# Altium footprint library libNico.PcbLib: 28 footprints (part 1 of 2)
Each footprint in its own frame and in the unit in brackets; x right, y up, seen from the top. Pads: shape width x height; smd on the part's side, far side on the other; paste and mask are expansions set on the pad; w line width, h text height; cw(c..) or ccw(c..) is an arc to the next point about the centre after c.
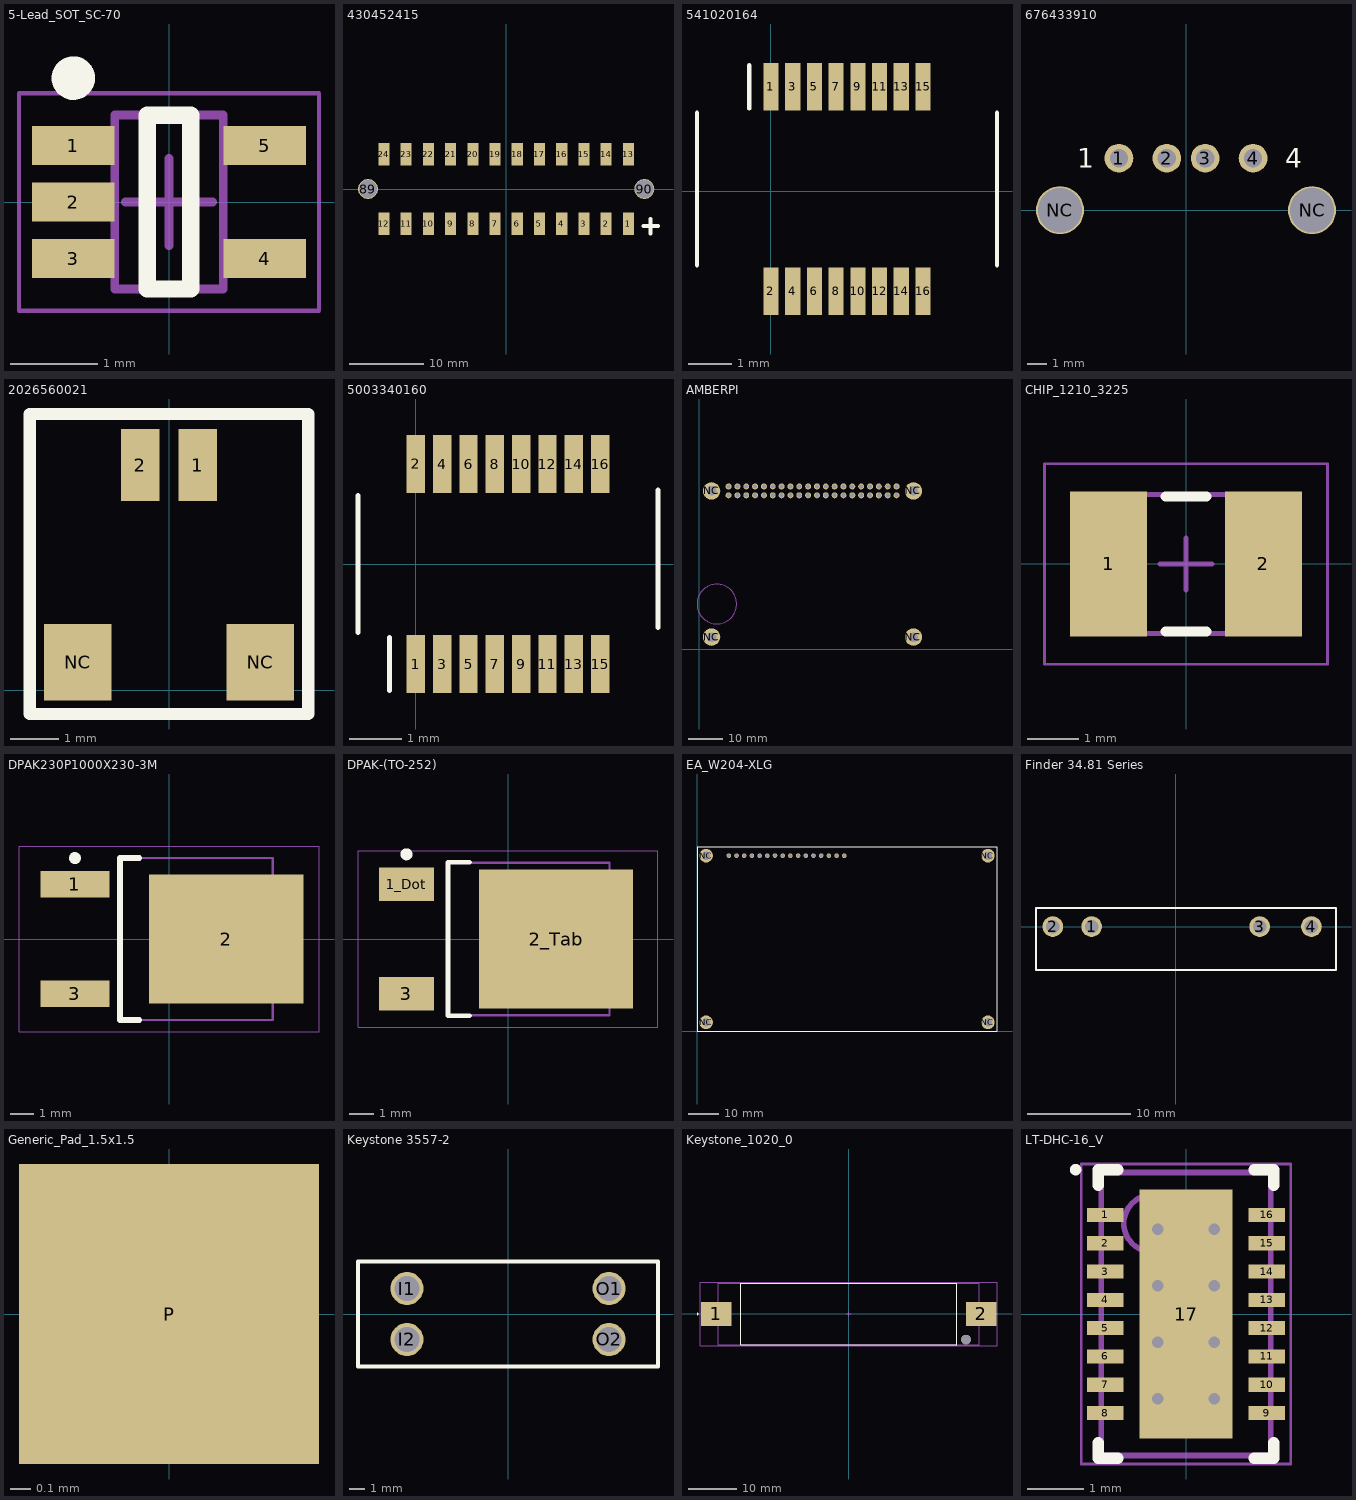
[diagram p0: the footprints below, top view; thin cyan lines are the x and y axes]

## 5-Lead_SOT_SC-70 [mm] "SOT23, 5-Leads, Body 2,00x2,10mm, Pitch 0,65mm, IPC Medium Density"
height 1.1
pads (5):
  rect 0.95x0.45 smd: 1(-1.1,0.65) 2(-1.1,0) 3(-1.1,-0.65) 4(1.1,-0.65) 5(1.1,0.65)
Top Overlay:
  circle w0.25: c-1.1,1.425 r0.125
  lines w0.2: -0.25,-1 0.25,-1 0.25,1 -0.25,1 -0.25,-1
Mechanical 13:
  lines w0.1: -0.625,-1 -0.625,1 0.625,1 0.625,-1 -0.625,-1
Mechanical 15:
  lines w0.05: -1.725,-1.25 -1.725,1.25 1.725,1.25 1.725,-1.25 -1.725,-1.25
  lines w0.1: -0.5,0 0.5,0 ; 0,-0.5 0,0.5
3D body "5-Lead_SOT_SC-70.step": height 1.1, standoff 0, extent -1.15,-1 1.15,1

## 430452415 [mm] "Micro-Fit 3.0 Vertical Header, 3.00mm Pitch, Dual Row, 24 Circuits, with PCB Press-fit Metal Retention Clip, Tin, Glow-Wire Capable, Black, Tape and Reel"
pads (26):
  rect 1.5x3 smd: 1(16.5,-4.7) 2(13.5,-4.7) 3(10.5,-4.7) 4(7.5,-4.7) 5(4.5,-4.7) 6(1.5,-4.7) 7(-1.5,-4.7) 8(-4.5,-4.7) 9(-7.5,-4.7) 10(-10.5,-4.7) 11(-13.5,-4.7) 12(-16.5,-4.7) 13(16.5,4.7) 14(13.5,4.7) 15(10.5,4.7) 16(7.5,4.7) 17(4.5,4.7) 18(1.5,4.7) 19(-1.5,4.7) 20(-4.5,4.7) 21(-7.5,4.7) 22(-10.5,4.7) 23(-13.5,4.7) 24(-16.5,4.7)
  round 2.7 hole 2.45: 89(-18.65,0) 90(18.65,0)
Top Overlay:
  lines w0.5: 18.5,-5 20.5,-5 ; 19.5,-6 19.5,-4
3D body "430452415.stp": height 10.05, standoff -1.91, extent -20.075,-5.61 20.075,5.59

## 541020164 [mm] "0.50mm Pitch SlimStack Receptacle, Surface Mount, Dual Row, Vertical, 2.50mm Stacking Height, Gold Plating with Nickel Barrier, 16 Circuits"
pads (16):
  rect 0.35x1.1 smd mask+0.05: 1(0,2.4) 2(0,-2.3) 3(0.5,2.4) 4(0.5,-2.3) 5(1,2.4) 6(1,-2.3) 7(1.5,2.4) 8(1.5,-2.3) 9(2,2.4) 10(2,-2.3) 11(2.5,2.4) 12(2.5,-2.3) 13(3,2.4) 14(3,-2.3) 15(3.5,2.4) 16(3.5,-2.3)
Top Overlay:
  lines w0.1: -1.7,-1.7 -1.7,1.8 ; -0.5,1.9 -0.5,2.9 ; 5.2,-1.7 5.2,1.8
3D body "541020164.stp": height 2.1, standoff 0, extent -1.55,-2.6 5.05,2.7

## 676433910 [mm] "Universal Serial Bus (USB) Shielded I/O Receptacle, Right-Angle, Type A, High-Temperature White Nylon, Gold (Au) Flash, PCB Thickness 1.60mm, without Upper Flange, for IR Reflow Process, Lead-Free"
pads (6):
  round 1.5 hole 0.95: 1(-3.5,2.71) 2(-1,2.71) 3(1,2.71) 4(3.5,2.71)
  round 2.5 hole 2.3: NC(-6.57,0) NC(6.57,0)
Top Overlay:
  text "1" at -5.667,2.2 h1
  text "4" at 5.167,2.2 h1
3D body "676433910.stp": height 8.23, standoff -3.2, extent -7.997,-10.26 7.997,5

## 2026560021 [mm] "Molex Pico-EZmate and Pico-EZmate Slim Wire-to-Board PCB Header"
pads (4):
  rect 0.8x1.5 smd: 1(0.6,4.685) 2(-0.6,4.685)
  rect 1.4x1.6 smd: NC(-1.9,0.58) NC(1.9,0.58)
Top Overlay:
  lines w0.254: -2.9,-0.5 -2.9,5.75 2.9,5.75 2.9,-0.5 -2.9,-0.5
3D body "2026560021.stp": height 1.28, standoff 0.08, extent -2.25,0 2.25,4.79

## 5003340160 [mm] "0.50mm Pitch SlimStack Plug, Surface Mount, Dual Row, Vertical, 2.50mm Stack Height, 16 Circuits"
pads (16):
  rect 0.35x1.1 smd mask+0.05: 1(0,-1.9) 2(0,1.9) 3(0.5,-1.9) 4(0.5,1.9) 5(1,-1.9) 6(1,1.9) 7(1.5,-1.9) 8(1.5,1.9) 9(2,-1.9) 10(2,1.9) 11(2.5,-1.9) 12(2.5,1.9) 13(3,-1.9) 14(3,1.9) 15(3.5,-1.9) 16(3.5,1.9)
Top Overlay:
  lines w0.1: -1.1,-1.3 -1.1,1.3 ; -0.5,-2.4 -0.5,-1.4 ; 4.6,-1.2 4.6,1.4
3D body "5003340160.stp": height 1.58, standoff 0, extent -0.975,-2.1 4.475,2.1

## AMBERPI [mm] "WE Elektronik AmberPi Kit flipped"
pads (44):
  round 1.7 hole 1.2: 1(8.37,44.23) 2(8.37,46.77) 3(10.91,44.23) 4(10.91,46.77) 5(13.45,44.23) 6(13.45,46.77) 7(15.99,44.23) 8(15.99,46.77) 9(18.53,44.23) 10(18.53,46.77) 11(21.07,44.23) 12(21.07,46.77) 13(23.61,44.23) 14(23.61,46.77) 15(26.15,44.23) 16(26.15,46.77) 17(28.69,44.23) 18(28.69,46.77) 19(31.23,44.23) 20(31.23,46.77) 21(33.77,44.23) 22(33.77,46.77) 23(36.31,44.23) 24(36.31,46.77) 25(38.85,44.23) 26(38.85,46.77) 27(41.39,44.23) 28(41.39,46.77) 29(43.93,44.23) 30(43.93,46.77) 31(46.47,44.23) 32(46.47,46.77) 33(49.01,44.23) 34(49.01,46.77) 35(51.55,44.23) 36(51.55,46.77) 37(54.09,44.23) 38(54.09,46.77) 39(56.63,44.23) 40(56.63,46.77)
  round 5 hole 2.7: NC(3.5,3.5) NC(3.5,45.5) NC(61.5,3.5) NC(61.5,45.5)
Bottom Overlay:
  lines w0.25: 0,0 0,49 85.5,49 85.5,0 0,0 ; 7.1,42.96 57.9,42.96 57.9,48.04 7.1,48.04 7.1,42.96
  text "1" at 6.73,42.55 h0.9
  text "2" at 6.78,47.8 h0.9
  text "39" at 59.82,42.3 h0.9
  text "40" at 59.82,47.8 h0.9
Board Outline:
  circle w0.254: c5,13 r5.7

## CHIP_1210_3225 [mm] "Chip Inductor, 2-Leads, Body 3,20x2,50mm, IPC Low Density"
height 2.7
pads (2):
  rect 1.49x2.82 smd: 1(-1.505,0) 2(1.505,0)
Top Overlay:
  lines w0.2: -0.4,-1.31 0.4,-1.31 ; -0.4,1.31 0.4,1.31
Mechanical 13:
  lines w0.1: -1.7,-1.35 -1.7,1.35 1.7,1.35 1.7,-1.35 -1.7,-1.35
Mechanical 15:
  lines w0.05: -2.75,-1.95 -2.75,1.95 2.75,1.95 2.75,-1.95 -2.75,-1.95
  lines w0.1: -0.5,0 0.5,0 ; 0,-0.5 0,0.5
3D body "CHIP_1210_3225.step": height 2.7, standoff 0, extent -1.7,-1.35 1.7,1.35

## DPAK230P1000X230-3M [mm] "D-PAK, 3-Pads, Body 6,30x6,76mm (max), IPC Low Density"
height 2.3
pads (3):
  rect 2.9x1.1 smd: 1(-3.95,2.3) 3(-3.95,-2.3)
  rect 6.5x5.4 smd: 2(2.4,0)
Top Overlay:
  circle w0.25: c-3.95,3.4 r0.125
  lines w0.25: -1.25,-3.4 -2.05,-3.4 -2.05,3.4 -1.25,3.4
Mechanical 13:
  lines w0.1: -2.05,-3.4 -2.05,3.4 4.35,3.4 4.35,-3.4 -2.05,-3.4
Mechanical 15:
  lines w0.05: -6.3,-3.9 -6.3,3.9 6.3,3.9 6.3,-3.9 -6.3,-3.9
  lines w0.1: -0.5,0 0.5,0 ; 0,-0.5 0,0.5
3D body "DPAK230P1000X230-3M.step": height 2.3, standoff 0, extent -4.2,-3.4 5.8,3.4

## DPAK-(TO-252) [mm] "D-PAK, 3-Pads, Body 6,47x6,54mm (max), IPC Low Density"
height 2.38
pads (3):
  rect 2.3x1.4 smd: 1_Dot(-4.23,2.28) 3(-4.23,-2.28)
  rect 6.4x5.8 smd: 2_Tab(2,0)
Top Overlay:
  circle w0.25: c-4.23,3.53 r0.125
  lines w0.2: -1.6,-3.2 -2.5,-3.2 -2.5,3.2 -1.6,3.2
Mechanical 13:
  lines w0.1: -2.5,-3.175 4.23,-3.175 4.23,3.175 -2.5,3.175 -2.5,-3.175
Mechanical 15:
  lines w0.05: -6.25,-3.675 6.25,-3.675 6.25,3.675 -6.25,3.675 -6.25,-3.675
  lines w0.1: -0.5,0 0.5,0 ; 0,-0.5 0,0.5
3D body: height 2.38, standoff 0, extent -2.5,-3.175 4.23,3.175

## EA_W204-XLG [mm] "Display"
pads (20):
  round 1.5 hole 1.2: 1(10.5,58) 2(13.04,58) 3(15.58,58) 4(18.12,58) 5(20.66,58) 6(23.2,58) 7(25.74,58) 8(28.28,58) 9(30.82,58) 10(33.36,58) 11(35.9,58) 12(38.44,58) 13(40.98,58) 14(43.52,58) 15(46.06,58) 16(48.6,58)
  round 4.5 hole 2.7: NC(3,3) NC(3,58) NC(96,3) NC(96,58)
Top Overlay:
  lines w0.2: 0,0 99,0 99,61 0,61 0,0
3D body "EA_W204-XLG.stp": height 17.4, standoff 11.1, extent 0.5,0.5 98.5,60.5

## Finder 34.81 Series [mm] "Opto-Isolator"
pads (4):
  round 2 hole 1.3: 1(-8.125,0) 2(-11.875,0) 3(8.125,0) 4(13.125,0)
Top Overlay:
  lines w0.2: -13.5,-4.2 -13.5,1.8 15.5,1.8 15.5,-4.2 -13.5,-4.2
3D body "3481.stp": height 15.17, standoff -3.43, extent -13,-3.7 15,1.3

## Generic_Pad_1.5x1.5 [mm] "1.5mm x 1.5mm Pad"
pads (1):
  rect 1.5x1.5 smd: P(0,0)

## Keystone 3557-2 [mm] "Fuse Holder"
pads (4):
  round 2.2 hole 1.65: I1(-6.735,1.7) I2(-6.735,-1.7) O1(6.735,1.7) O2(6.735,-1.7)
Top Overlay:
  lines w0.254: -10,-3.5 -10,3.5 10,3.5 10,-3.5 -10,-3.5

## Keystone_1020_0 [mm]
pads (3):
  rect 6.35x5.08 smd paste+0 mask+0: 1(-27.57,0) 2(27.57,0)
  round 1.98 hole 1.98 unplated paste-1000 mask+0: ""(24.395,-5.31)
Top Overlay:
  circle w0.25: c-31.445,0 r0.125
  lines w0.2: -22.5,-6.35 22.5,-6.35 22.5,6.35 -22.5,6.35 -22.5,-6.35
Mechanical 10:
  lines w0.2: -30.845,-6.575 30.845,-6.575 30.845,6.575 -30.845,6.575 -30.845,-6.575
  text ".Designator" at 0,0 h1
Mechanical 12:
  lines w0.15: -27.178,-6.35 27.178,-6.35 27.178,6.35 -27.178,6.35 -27.178,-6.35
Mechanical 15:
  lines w0.1: -0.5,0 0.5,0 ; 0,-0.5 0,0.5
  lines w0.2: -30.845,-6.575 30.845,-6.575 30.845,6.575 -30.845,6.575 -30.845,-6.575

## LT-DHC-16_V [mm] "SON, 16-Leads, Body 5x3mm, Pitch 0.5mm, Thermal Pad 4.4X1.65mm"
height 0.8
pads (17):
  rect 0.65x0.25 smd: 1(-1.425,1.75) 2(-1.425,1.25) 3(-1.425,0.75) 4(-1.425,0.25) 5(-1.425,-0.25) 6(-1.425,-0.75) 7(-1.425,-1.25) 8(-1.425,-1.75) 9(1.425,-1.75) 10(1.425,-1.25) 11(1.425,-0.75) 12(1.425,-0.25) 13(1.425,0.25) 14(1.425,0.75) 15(1.425,1.25) 16(1.425,1.75)
  rect 1.65x4.4 smd: 17(0,0)
via -0.5,1.5 diameter 0.5 hole 0.2
via 0.5,1.5 diameter 0.5 hole 0.2
via -0.5,0.5 diameter 0.5 hole 0.2
via 0.5,0.5 diameter 0.5 hole 0.2
via -0.5,-0.5 diameter 0.5 hole 0.2
via 0.5,-0.5 diameter 0.5 hole 0.2
via -0.5,-1.5 diameter 0.5 hole 0.2
via 0.5,-1.5 diameter 0.5 hole 0.2
Top Overlay:
  circle w0.1: c-1.95,2.55 r0.05
  lines w0.2: -1.55,-2.275 -1.55,-2.55 -1.2,-2.55 ; -1.55,2.275 -1.55,2.55 -1.2,2.55 ; 1.2,-2.55 1.55,-2.55 1.55,-2.275 ; 1.2,2.55 1.55,2.55 1.55,2.275
Mechanical 13:
  circle w0.1: c-0.6,1.6 r0.5
  lines w0.1: -1.5,-2.5 -1.5,2.5 1.5,2.5 1.5,-2.5 -1.5,-2.5
Mechanical 15:
  lines w0.05: -1.85,-2.65 -1.85,2.65 1.85,2.65 1.85,-2.65 -1.85,-2.65
  lines w0.1: -0.5,0 0.5,0 ; 0,-0.5 0,0.5
3D body: height 0.8, standoff 0, extent -1.5,-2.5 1.5,2.5